# Altium schematic symbol library THS4302.SchLib: 2 symbols
Pins are listed as number, name and electrical type; pins without a type are passive.

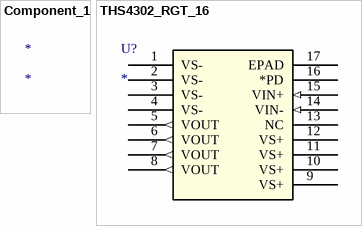
[diagram p0: symbols Component_1 to THS4302_RGT_16]

## Component_1
designator *

## THS4302_RGT_16
designator U?
Imported; Manufacturer_Part_Number: ths4302_rgt_16; GENERIC_PART_NUMBER: THS4302; Vendor: Texas Instruments; PACKAGE_DESIGNATOR: RGT; PIN_COUNT: 16; FAMILY_NAME: FIXED GAIN; INDUSTRY_STD_PKG_TYPE: QFN; Manufacturer: Texas Instruments; Datasheet_URL: http://www.ti.com/lit/gpn/THS4302; Value: Value; Type: Type; RefDes: RefDes
footprint RGT16_1P45X1P45
pins: 1 VS- (power), 2 VS- (power), 3 VS- (power), 4 VS- (power), 5 VOUT (out), 6 VOUT (out), 7 VOUT (out), 8 VOUT (out), 9 VS+ (power), 10 VS+ (power), 11 VS+ (power), 12 VS+ (power), 13 NC, 14 VIN- (in), 15 VIN+ (in), 16 *PD, 17 EPAD